# Altium schematic symbol library WE-OLTI.SchLib: 30 symbols
Pins are listed as number, name and electrical type; pins without a type are passive.

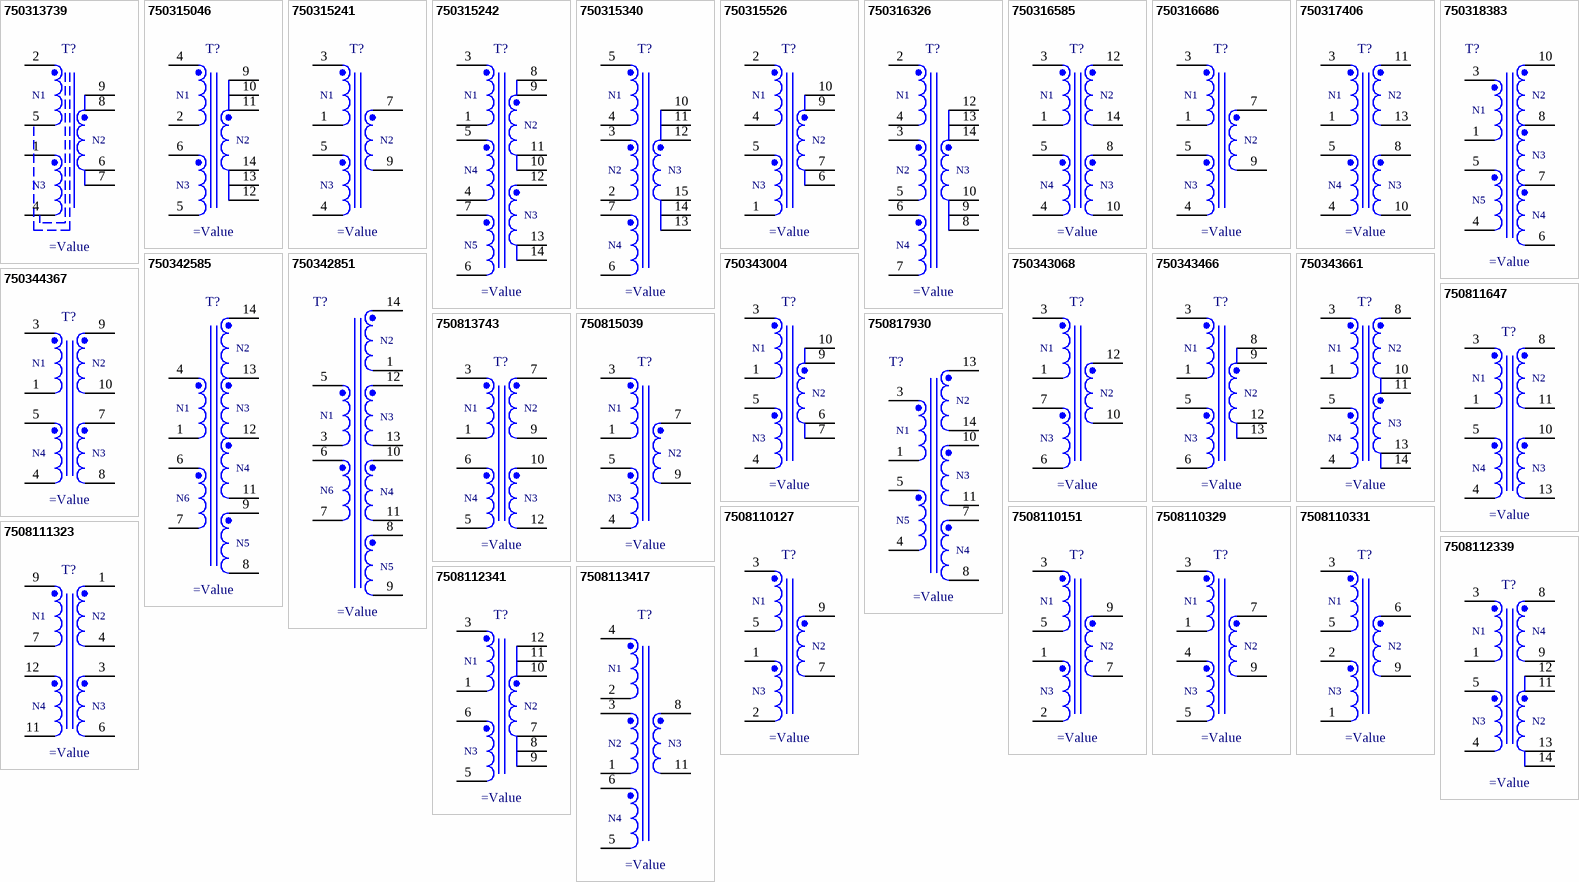
[diagram p0: symbols 750313739 to 7508113417]

## 750313739
designator T?
pins: 1, 2, 4, 5, 6, 7, 8, 9
text: N1; N2; N3

## 750315046
designator T?
pins: 2, 4, 5, 6, 9, 10, 11, 12, 13, 14
text: N1; N2; N3

## 750315241
designator T?
pins: 1, 3, 4, 5, 7, 9
text: N1; N2; N3

## 750315242
designator T?
pins: 1, 3, 4, 5, 6, 7, 8, 9, 10, 11, 12, 13, 14
text: N1; N2; N4; N3; N5

## 750315340
designator T?
pins: 2, 3, 4, 5, 6, 7, 10, 11, 12, 13, 14, 15
text: N1; N2; N3; N4

## 750315526
designator T?
pins: 1, 2, 4, 5, 6, 7, 9, 10
text: N1; N2; N3

## 750316326
designator T?
pins: 2, 3, 4, 5, 6, 7, 8, 9, 10, 12, 13, 14
text: N1; N2; N3; N4

## 750316585
designator T?
pins: 1, 3, 4, 5, 8, 10, 12, 14
text: N1; N2; N4; N3

## 750316686
designator T?
pins: 1, 3, 4, 5, 7, 9
text: N1; N2; N3

## 750317406
designator T?
pins: 1, 3, 4, 5, 8, 10, 11, 13
text: N1; N2; N4; N3

## 750318383
designator T?
pins: 1, 3, 4, 5, 6, 7, 8, 10
text: N2; N1; N3; N5; N4

## 750342585
designator T?
pins: 1, 4, 6, 7, 8, 9, 11, 12, 13, 14
text: N2; N1; N3; N4; N6; N5

## 750342851
designator T?
pins: 1, 3, 5, 6, 7, 8, 9, 10, 11, 12, 13, 14
text: N2; N1; N3; N6; N4; N5

## 750343004
designator T?
pins: 1, 3, 4, 5, 6, 7, 9, 10
text: N1; N2; N3

## 750343068
designator T?
pins: 1, 3, 6, 7, 10, 12
text: N1; N2; N3

## 750343466
designator T?
pins: 1, 3, 5, 6, 8, 9, 12, 13
text: N1; N2; N3

## 750343661
designator T?
pins: 1, 3, 4, 5, 8, 10, 11, 13, 14
text: N1; N2; N3; N4

## 750344367
designator T?
pins: 1, 3, 4, 5, 7, 8, 9, 10
text: N1; N2; N4; N3

## 750811647
designator T?
pins: 1, 3, 4, 5, 8, 10, 11, 13
text: N1; N2; N4; N3

## 750813743
designator T?
pins: 1, 3, 5, 6, 7, 9, 10, 12
text: N1; N2; N4; N3

## 750815039
designator T?
pins: 1, 3, 4, 5, 7, 9
text: N1; N2; N3

## 750817930
designator T?
pins: 1, 3, 4, 5, 7, 8, 10, 11, 13, 14
text: N2; N1; N3; N5; N4

## 7508110127
designator T?
pins: 1, 2, 3, 5, 7, 9
text: N1; N2; N3

## 7508110151
designator T?
pins: 1, 2, 3, 5, 7, 9
text: N1; N2; N3

## 7508110329
designator T?
pins: 1, 3, 4, 5, 7, 9
text: N1; N2; N3

## 7508110331
designator T?
pins: 1, 2, 3, 5, 6, 9
text: N1; N2; N3

## 7508111323
designator T?
pins: 1, 3, 4, 6, 7, 9, 11, 12
text: N1; N2; N4; N3

## 7508112339
designator T?
pins: 1, 3, 4, 5, 8, 9, 11, 12, 13, 14
text: N1; N4; N3; N2

## 7508112341
designator T?
pins: 1, 3, 5, 6, 7, 8, 9, 10, 11, 12
text: N1; N2; N3

## 7508113417
designator T?
pins: 1, 2, 3, 4, 5, 6, 8, 11
text: N1; N2; N3; N4